# Altium integrated library Cypress Memory Static RAM.IntLib: 171 symbols (part 1 of 7)
Pins are listed as number, name and electrical type; pins without a type are passive.

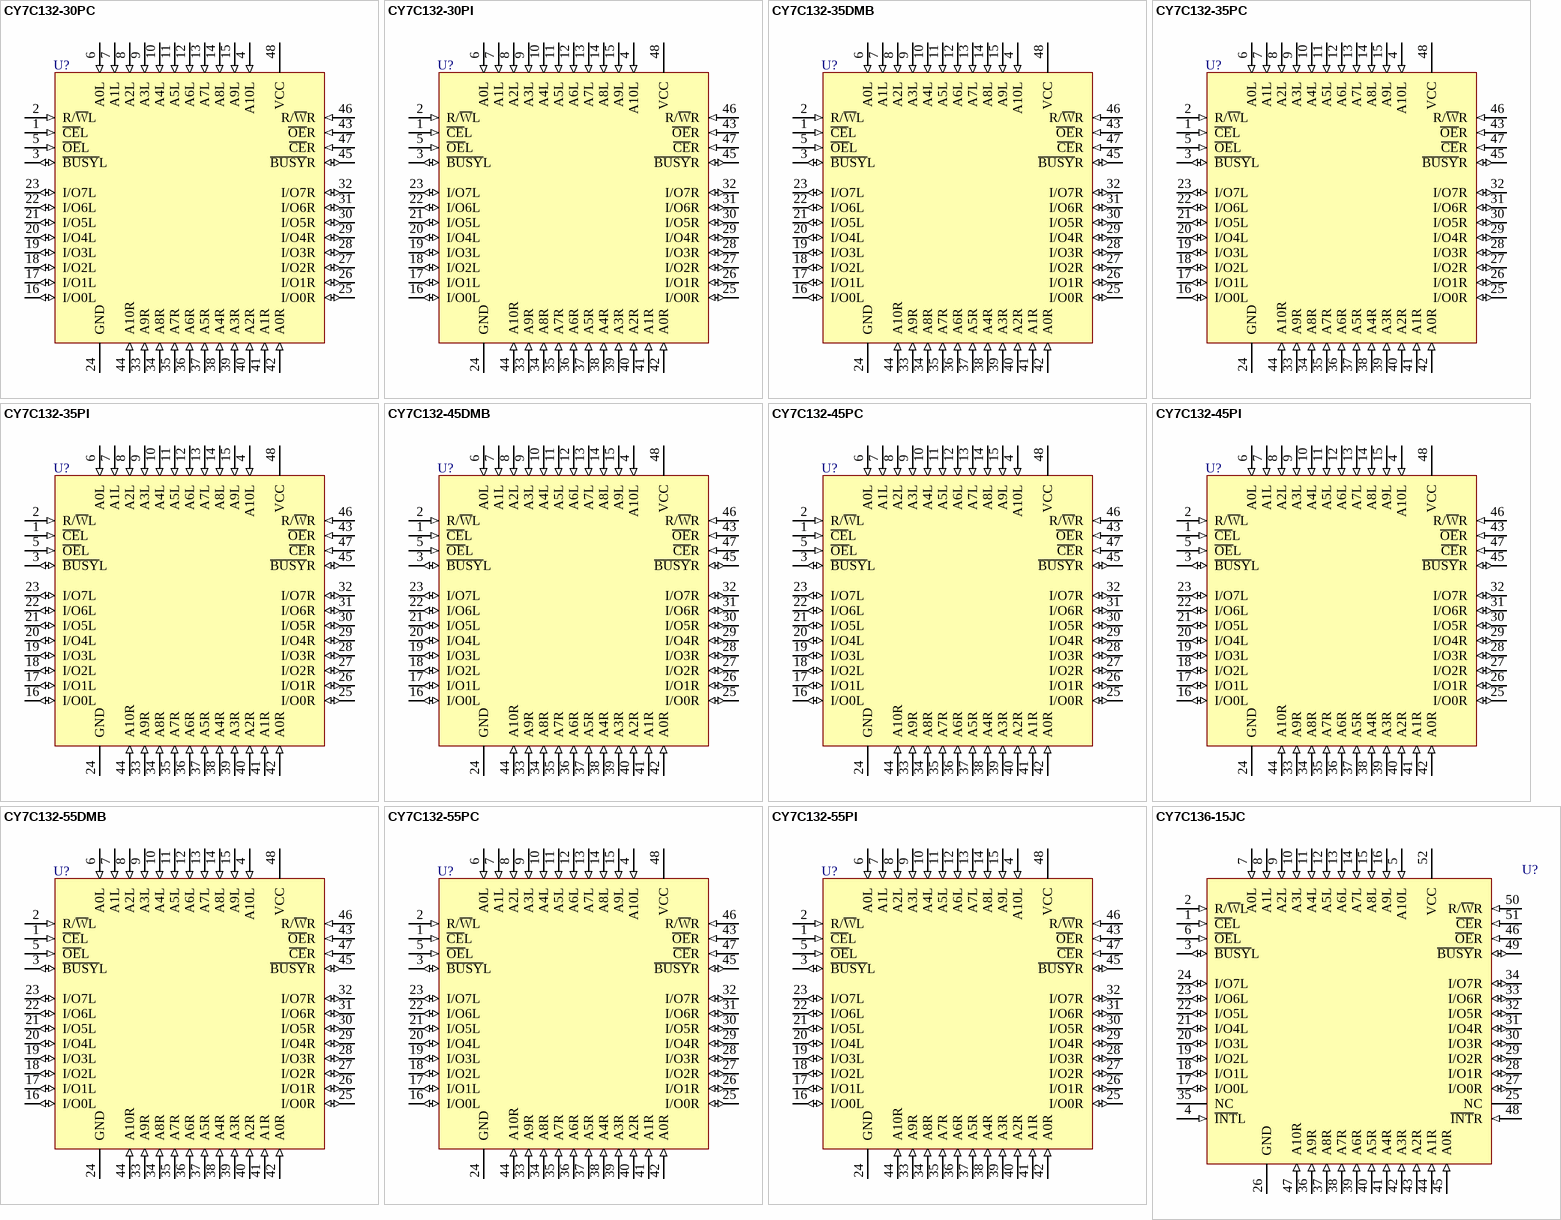
[diagram p0: symbols CY7C132-30PC to CY7C136-15JC]

## CY7C132-30PC
designator U?
2K x 8 Dual-Port Static RAM; Published: 11-Dec-2002; LatestRevisionDate: 04-Mar-2005; LatestRevisionNote: Stylized 3D Model Added.; DatasheetVersion: 27-Mar-1997; PackageVersion: Mar-1997; PackageReference: P25; Publisher: Altium Limited; PackageDescription: DIP, Molded; 48 Leads; Row Spacing 15.24 mm; Pitch 2.54 mm; ComponentLink1Description: Manufacturer Link; ComponentLink1URL: http://www.cypress.com/
footprint P25 (DIP, Molded; 48 Leads; Row Spacing 15.24 mm; Pitch 2.54 mm)
3D model P25 (DIP, Molded; 48 Leads; Row Spacing 15.24 mm; Pitch 2.54 mm)
pins: 1 ~{CE}L (in), 2 R/~{W}L (in), 3 ~{BUSY}L (io), 4 A10L (in), 5 ~{OE}L (in), 6 A0L (in), 7 A1L (in), 8 A2L (in), 9 A3L (in), 10 A4L (in), 11 A5L (in), 12 A6L (in), 13 A7L (in), 14 A8L (in), 15 A9L (in), 16 I/O0L (io), 17 I/O1L (io), 18 I/O2L (io), 19 I/O3L (io), 20 I/O4L (io), 21 I/O5L (io), 22 I/O6L (io), 23 I/O7L (io), 24 GND (power), 25 I/O0R (io), 26 I/O1R (io), 27 I/O2R (io), 28 I/O3R (io), 29 I/O4R (io), 30 I/O5R (io), 31 I/O6R (io), 32 I/O7R (io), 33 A9R (in), 34 A8R (in), 35 A7R (in), 36 A6R (in), 37 A5R (in), 38 A4R (in), 39 A3R (in), 40 A2R (in), 41 A1R (in), 42 A0R (in), 43 ~{OE}R (in), 44 A10R (in), 45 ~{BUSY}R (io), 46 R/~{W}R (in), 47 ~{CE}R (in), 48 VCC (power)

## CY7C132-30PI
designator U?
2K x 8 Dual-Port Static RAM; Published: 11-Dec-2002; LatestRevisionDate: 04-Mar-2005; LatestRevisionNote: Stylized 3D Model Added.; DatasheetVersion: 27-Mar-1997; PackageVersion: Mar-1997; PackageReference: P25; Publisher: Altium Limited; PackageDescription: DIP, Molded; 48 Leads; Row Spacing 15.24 mm; Pitch 2.54 mm; ComponentLink1Description: Manufacturer Link; ComponentLink1URL: http://www.cypress.com/
footprint P25 (DIP, Molded; 48 Leads; Row Spacing 15.24 mm; Pitch 2.54 mm)
3D model P25 (DIP, Molded; 48 Leads; Row Spacing 15.24 mm; Pitch 2.54 mm)
pins: 1 ~{CE}L (in), 2 R/~{W}L (in), 3 ~{BUSY}L (io), 4 A10L (in), 5 ~{OE}L (in), 6 A0L (in), 7 A1L (in), 8 A2L (in), 9 A3L (in), 10 A4L (in), 11 A5L (in), 12 A6L (in), 13 A7L (in), 14 A8L (in), 15 A9L (in), 16 I/O0L (io), 17 I/O1L (io), 18 I/O2L (io), 19 I/O3L (io), 20 I/O4L (io), 21 I/O5L (io), 22 I/O6L (io), 23 I/O7L (io), 24 GND (power), 25 I/O0R (io), 26 I/O1R (io), 27 I/O2R (io), 28 I/O3R (io), 29 I/O4R (io), 30 I/O5R (io), 31 I/O6R (io), 32 I/O7R (io), 33 A9R (in), 34 A8R (in), 35 A7R (in), 36 A6R (in), 37 A5R (in), 38 A4R (in), 39 A3R (in), 40 A2R (in), 41 A1R (in), 42 A0R (in), 43 ~{OE}R (in), 44 A10R (in), 45 ~{BUSY}R (io), 46 R/~{W}R (in), 47 ~{CE}R (in), 48 VCC (power)

## CY7C132-35DMB
designator U?
2K x 8 Dual-Port Static RAM; Published: 11-Dec-2002; LatestRevisionDate: 04-Mar-2005; LatestRevisionNote: Stylized 3D Model Added.; DatasheetVersion: 27-Mar-1997; PackageVersion: Mar-1997; PackageReference: D26; Publisher: Altium Limited; PackageDescription: DIP, Sidebraze; 48 Leads; Row Spacing 15.24 mm; Pitch 2.54 mm; ComponentLink1Description: Manufacturer Link; ComponentLink1URL: http://www.cypress.com/
footprint D26 (DIP, Sidebraze; 48 Leads; Row Spacing 15.24 mm; Pitch 2.54 mm)
3D model P25 (DIP, Sidebraze; 48 Leads; Row Spacing 15.24 mm; Pitch 2.54 mm)
pins: 1 ~{CE}L (in), 2 R/~{W}L (in), 3 ~{BUSY}L (io), 4 A10L (in), 5 ~{OE}L (in), 6 A0L (in), 7 A1L (in), 8 A2L (in), 9 A3L (in), 10 A4L (in), 11 A5L (in), 12 A6L (in), 13 A7L (in), 14 A8L (in), 15 A9L (in), 16 I/O0L (io), 17 I/O1L (io), 18 I/O2L (io), 19 I/O3L (io), 20 I/O4L (io), 21 I/O5L (io), 22 I/O6L (io), 23 I/O7L (io), 24 GND (power), 25 I/O0R (io), 26 I/O1R (io), 27 I/O2R (io), 28 I/O3R (io), 29 I/O4R (io), 30 I/O5R (io), 31 I/O6R (io), 32 I/O7R (io), 33 A9R (in), 34 A8R (in), 35 A7R (in), 36 A6R (in), 37 A5R (in), 38 A4R (in), 39 A3R (in), 40 A2R (in), 41 A1R (in), 42 A0R (in), 43 ~{OE}R (in), 44 A10R (in), 45 ~{BUSY}R (io), 46 R/~{W}R (in), 47 ~{CE}R (in), 48 VCC (power)

## CY7C132-35PC
designator U?
2K x 8 Dual-Port Static RAM; Published: 11-Dec-2002; LatestRevisionDate: 04-Mar-2005; LatestRevisionNote: Stylized 3D Model Added.; DatasheetVersion: 27-Mar-1997; PackageVersion: Mar-1997; PackageReference: P25; Publisher: Altium Limited; PackageDescription: DIP, Molded; 48 Leads; Row Spacing 15.24 mm; Pitch 2.54 mm; ComponentLink1Description: Manufacturer Link; ComponentLink1URL: http://www.cypress.com/
footprint P25 (DIP, Molded; 48 Leads; Row Spacing 15.24 mm; Pitch 2.54 mm)
3D model P25 (DIP, Molded; 48 Leads; Row Spacing 15.24 mm; Pitch 2.54 mm)
pins: 1 ~{CE}L (in), 2 R/~{W}L (in), 3 ~{BUSY}L (io), 4 A10L (in), 5 ~{OE}L (in), 6 A0L (in), 7 A1L (in), 8 A2L (in), 9 A3L (in), 10 A4L (in), 11 A5L (in), 12 A6L (in), 13 A7L (in), 14 A8L (in), 15 A9L (in), 16 I/O0L (io), 17 I/O1L (io), 18 I/O2L (io), 19 I/O3L (io), 20 I/O4L (io), 21 I/O5L (io), 22 I/O6L (io), 23 I/O7L (io), 24 GND (power), 25 I/O0R (io), 26 I/O1R (io), 27 I/O2R (io), 28 I/O3R (io), 29 I/O4R (io), 30 I/O5R (io), 31 I/O6R (io), 32 I/O7R (io), 33 A9R (in), 34 A8R (in), 35 A7R (in), 36 A6R (in), 37 A5R (in), 38 A4R (in), 39 A3R (in), 40 A2R (in), 41 A1R (in), 42 A0R (in), 43 ~{OE}R (in), 44 A10R (in), 45 ~{BUSY}R (io), 46 R/~{W}R (in), 47 ~{CE}R (in), 48 VCC (power)

## CY7C132-35PI
designator U?
2K x 8 Dual-Port Static RAM; Published: 11-Dec-2002; LatestRevisionDate: 04-Mar-2005; LatestRevisionNote: Stylized 3D Model Added.; DatasheetVersion: 27-Mar-1997; PackageVersion: Mar-1997; PackageReference: P25; Publisher: Altium Limited; PackageDescription: DIP, Molded; 48 Leads; Row Spacing 15.24 mm; Pitch 2.54 mm; ComponentLink1Description: Manufacturer Link; ComponentLink1URL: http://www.cypress.com/
footprint P25 (DIP, Molded; 48 Leads; Row Spacing 15.24 mm; Pitch 2.54 mm)
3D model P25 (DIP, Molded; 48 Leads; Row Spacing 15.24 mm; Pitch 2.54 mm)
pins: 1 ~{CE}L (in), 2 R/~{W}L (in), 3 ~{BUSY}L (io), 4 A10L (in), 5 ~{OE}L (in), 6 A0L (in), 7 A1L (in), 8 A2L (in), 9 A3L (in), 10 A4L (in), 11 A5L (in), 12 A6L (in), 13 A7L (in), 14 A8L (in), 15 A9L (in), 16 I/O0L (io), 17 I/O1L (io), 18 I/O2L (io), 19 I/O3L (io), 20 I/O4L (io), 21 I/O5L (io), 22 I/O6L (io), 23 I/O7L (io), 24 GND (power), 25 I/O0R (io), 26 I/O1R (io), 27 I/O2R (io), 28 I/O3R (io), 29 I/O4R (io), 30 I/O5R (io), 31 I/O6R (io), 32 I/O7R (io), 33 A9R (in), 34 A8R (in), 35 A7R (in), 36 A6R (in), 37 A5R (in), 38 A4R (in), 39 A3R (in), 40 A2R (in), 41 A1R (in), 42 A0R (in), 43 ~{OE}R (in), 44 A10R (in), 45 ~{BUSY}R (io), 46 R/~{W}R (in), 47 ~{CE}R (in), 48 VCC (power)

## CY7C132-45DMB
designator U?
2K x 8 Dual-Port Static RAM; Published: 11-Dec-2002; LatestRevisionDate: 04-Mar-2005; LatestRevisionNote: Stylized 3D Model Added.; DatasheetVersion: 27-Mar-1997; PackageVersion: Mar-1997; PackageReference: D26; Publisher: Altium Limited; PackageDescription: DIP, Sidebraze; 48 Leads; Row Spacing 15.24 mm; Pitch 2.54 mm; ComponentLink1Description: Manufacturer Link; ComponentLink1URL: http://www.cypress.com/
footprint D26 (DIP, Sidebraze; 48 Leads; Row Spacing 15.24 mm; Pitch 2.54 mm)
3D model P25 (DIP, Sidebraze; 48 Leads; Row Spacing 15.24 mm; Pitch 2.54 mm)
pins: 1 ~{CE}L (in), 2 R/~{W}L (in), 3 ~{BUSY}L (io), 4 A10L (in), 5 ~{OE}L (in), 6 A0L (in), 7 A1L (in), 8 A2L (in), 9 A3L (in), 10 A4L (in), 11 A5L (in), 12 A6L (in), 13 A7L (in), 14 A8L (in), 15 A9L (in), 16 I/O0L (io), 17 I/O1L (io), 18 I/O2L (io), 19 I/O3L (io), 20 I/O4L (io), 21 I/O5L (io), 22 I/O6L (io), 23 I/O7L (io), 24 GND (power), 25 I/O0R (io), 26 I/O1R (io), 27 I/O2R (io), 28 I/O3R (io), 29 I/O4R (io), 30 I/O5R (io), 31 I/O6R (io), 32 I/O7R (io), 33 A9R (in), 34 A8R (in), 35 A7R (in), 36 A6R (in), 37 A5R (in), 38 A4R (in), 39 A3R (in), 40 A2R (in), 41 A1R (in), 42 A0R (in), 43 ~{OE}R (in), 44 A10R (in), 45 ~{BUSY}R (io), 46 R/~{W}R (in), 47 ~{CE}R (in), 48 VCC (power)

## CY7C132-45PC
designator U?
2K x 8 Dual-Port Static RAM; Published: 11-Dec-2002; LatestRevisionDate: 04-Mar-2005; LatestRevisionNote: Stylized 3D Model Added.; DatasheetVersion: 27-Mar-1997; PackageVersion: Mar-1997; PackageReference: P25; Publisher: Altium Limited; PackageDescription: DIP, Molded; 48 Leads; Row Spacing 15.24 mm; Pitch 2.54 mm; ComponentLink1Description: Manufacturer Link; ComponentLink1URL: http://www.cypress.com/
footprint P25 (DIP, Molded; 48 Leads; Row Spacing 15.24 mm; Pitch 2.54 mm)
3D model P25 (DIP, Molded; 48 Leads; Row Spacing 15.24 mm; Pitch 2.54 mm)
pins: 1 ~{CE}L (in), 2 R/~{W}L (in), 3 ~{BUSY}L (io), 4 A10L (in), 5 ~{OE}L (in), 6 A0L (in), 7 A1L (in), 8 A2L (in), 9 A3L (in), 10 A4L (in), 11 A5L (in), 12 A6L (in), 13 A7L (in), 14 A8L (in), 15 A9L (in), 16 I/O0L (io), 17 I/O1L (io), 18 I/O2L (io), 19 I/O3L (io), 20 I/O4L (io), 21 I/O5L (io), 22 I/O6L (io), 23 I/O7L (io), 24 GND (power), 25 I/O0R (io), 26 I/O1R (io), 27 I/O2R (io), 28 I/O3R (io), 29 I/O4R (io), 30 I/O5R (io), 31 I/O6R (io), 32 I/O7R (io), 33 A9R (in), 34 A8R (in), 35 A7R (in), 36 A6R (in), 37 A5R (in), 38 A4R (in), 39 A3R (in), 40 A2R (in), 41 A1R (in), 42 A0R (in), 43 ~{OE}R (in), 44 A10R (in), 45 ~{BUSY}R (io), 46 R/~{W}R (in), 47 ~{CE}R (in), 48 VCC (power)

## CY7C132-45PI
designator U?
2K x 8 Dual-Port Static RAM; Published: 11-Dec-2002; LatestRevisionDate: 04-Mar-2005; LatestRevisionNote: Stylized 3D Model Added.; DatasheetVersion: 27-Mar-1997; PackageVersion: Mar-1997; PackageReference: P25; Publisher: Altium Limited; PackageDescription: DIP, Molded; 48 Leads; Row Spacing 15.24 mm; Pitch 2.54 mm; ComponentLink1Description: Manufacturer Link; ComponentLink1URL: http://www.cypress.com/
footprint P25 (DIP, Molded; 48 Leads; Row Spacing 15.24 mm; Pitch 2.54 mm)
3D model P25 (DIP, Molded; 48 Leads; Row Spacing 15.24 mm; Pitch 2.54 mm)
pins: 1 ~{CE}L (in), 2 R/~{W}L (in), 3 ~{BUSY}L (io), 4 A10L (in), 5 ~{OE}L (in), 6 A0L (in), 7 A1L (in), 8 A2L (in), 9 A3L (in), 10 A4L (in), 11 A5L (in), 12 A6L (in), 13 A7L (in), 14 A8L (in), 15 A9L (in), 16 I/O0L (io), 17 I/O1L (io), 18 I/O2L (io), 19 I/O3L (io), 20 I/O4L (io), 21 I/O5L (io), 22 I/O6L (io), 23 I/O7L (io), 24 GND (power), 25 I/O0R (io), 26 I/O1R (io), 27 I/O2R (io), 28 I/O3R (io), 29 I/O4R (io), 30 I/O5R (io), 31 I/O6R (io), 32 I/O7R (io), 33 A9R (in), 34 A8R (in), 35 A7R (in), 36 A6R (in), 37 A5R (in), 38 A4R (in), 39 A3R (in), 40 A2R (in), 41 A1R (in), 42 A0R (in), 43 ~{OE}R (in), 44 A10R (in), 45 ~{BUSY}R (io), 46 R/~{W}R (in), 47 ~{CE}R (in), 48 VCC (power)

## CY7C132-55DMB
designator U?
2K x 8 Dual-Port Static RAM; Published: 11-Dec-2002; LatestRevisionDate: 04-Mar-2005; LatestRevisionNote: Stylized 3D Model Added.; DatasheetVersion: 27-Mar-1997; PackageVersion: Mar-1997; PackageReference: D26; Publisher: Altium Limited; PackageDescription: DIP, Sidebraze; 48 Leads; Row Spacing 15.24 mm; Pitch 2.54 mm; ComponentLink1Description: Manufacturer Link; ComponentLink1URL: http://www.cypress.com/
footprint D26 (DIP, Sidebraze; 48 Leads; Row Spacing 15.24 mm; Pitch 2.54 mm)
3D model P25 (DIP, Sidebraze; 48 Leads; Row Spacing 15.24 mm; Pitch 2.54 mm)
pins: 1 ~{CE}L (in), 2 R/~{W}L (in), 3 ~{BUSY}L (io), 4 A10L (in), 5 ~{OE}L (in), 6 A0L (in), 7 A1L (in), 8 A2L (in), 9 A3L (in), 10 A4L (in), 11 A5L (in), 12 A6L (in), 13 A7L (in), 14 A8L (in), 15 A9L (in), 16 I/O0L (io), 17 I/O1L (io), 18 I/O2L (io), 19 I/O3L (io), 20 I/O4L (io), 21 I/O5L (io), 22 I/O6L (io), 23 I/O7L (io), 24 GND (power), 25 I/O0R (io), 26 I/O1R (io), 27 I/O2R (io), 28 I/O3R (io), 29 I/O4R (io), 30 I/O5R (io), 31 I/O6R (io), 32 I/O7R (io), 33 A9R (in), 34 A8R (in), 35 A7R (in), 36 A6R (in), 37 A5R (in), 38 A4R (in), 39 A3R (in), 40 A2R (in), 41 A1R (in), 42 A0R (in), 43 ~{OE}R (in), 44 A10R (in), 45 ~{BUSY}R (io), 46 R/~{W}R (in), 47 ~{CE}R (in), 48 VCC (power)

## CY7C132-55PC
designator U?
2K x 8 Dual-Port Static RAM; Published: 11-Dec-2002; LatestRevisionDate: 04-Mar-2005; LatestRevisionNote: Stylized 3D Model Added.; DatasheetVersion: 27-Mar-1997; PackageVersion: Mar-1997; PackageReference: P25; Publisher: Altium Limited; PackageDescription: DIP, Molded; 48 Leads; Row Spacing 15.24 mm; Pitch 2.54 mm; ComponentLink1Description: Manufacturer Link; ComponentLink1URL: http://www.cypress.com/
footprint P25 (DIP, Molded; 48 Leads; Row Spacing 15.24 mm; Pitch 2.54 mm)
3D model P25 (DIP, Molded; 48 Leads; Row Spacing 15.24 mm; Pitch 2.54 mm)
pins: 1 ~{CE}L (in), 2 R/~{W}L (in), 3 ~{BUSY}L (io), 4 A10L (in), 5 ~{OE}L (in), 6 A0L (in), 7 A1L (in), 8 A2L (in), 9 A3L (in), 10 A4L (in), 11 A5L (in), 12 A6L (in), 13 A7L (in), 14 A8L (in), 15 A9L (in), 16 I/O0L (io), 17 I/O1L (io), 18 I/O2L (io), 19 I/O3L (io), 20 I/O4L (io), 21 I/O5L (io), 22 I/O6L (io), 23 I/O7L (io), 24 GND (power), 25 I/O0R (io), 26 I/O1R (io), 27 I/O2R (io), 28 I/O3R (io), 29 I/O4R (io), 30 I/O5R (io), 31 I/O6R (io), 32 I/O7R (io), 33 A9R (in), 34 A8R (in), 35 A7R (in), 36 A6R (in), 37 A5R (in), 38 A4R (in), 39 A3R (in), 40 A2R (in), 41 A1R (in), 42 A0R (in), 43 ~{OE}R (in), 44 A10R (in), 45 ~{BUSY}R (io), 46 R/~{W}R (in), 47 ~{CE}R (in), 48 VCC (power)

## CY7C132-55PI
designator U?
2K x 8 Dual-Port Static RAM; Published: 11-Dec-2002; LatestRevisionDate: 04-Mar-2005; LatestRevisionNote: Stylized 3D Model Added.; DatasheetVersion: 27-Mar-1997; PackageVersion: Mar-1997; PackageReference: P25; Publisher: Altium Limited; PackageDescription: DIP, Molded; 48 Leads; Row Spacing 15.24 mm; Pitch 2.54 mm; ComponentLink1Description: Manufacturer Link; ComponentLink1URL: http://www.cypress.com/
footprint P25 (DIP, Molded; 48 Leads; Row Spacing 15.24 mm; Pitch 2.54 mm)
3D model P25 (DIP, Molded; 48 Leads; Row Spacing 15.24 mm; Pitch 2.54 mm)
pins: 1 ~{CE}L (in), 2 R/~{W}L (in), 3 ~{BUSY}L (io), 4 A10L (in), 5 ~{OE}L (in), 6 A0L (in), 7 A1L (in), 8 A2L (in), 9 A3L (in), 10 A4L (in), 11 A5L (in), 12 A6L (in), 13 A7L (in), 14 A8L (in), 15 A9L (in), 16 I/O0L (io), 17 I/O1L (io), 18 I/O2L (io), 19 I/O3L (io), 20 I/O4L (io), 21 I/O5L (io), 22 I/O6L (io), 23 I/O7L (io), 24 GND (power), 25 I/O0R (io), 26 I/O1R (io), 27 I/O2R (io), 28 I/O3R (io), 29 I/O4R (io), 30 I/O5R (io), 31 I/O6R (io), 32 I/O7R (io), 33 A9R (in), 34 A8R (in), 35 A7R (in), 36 A6R (in), 37 A5R (in), 38 A4R (in), 39 A3R (in), 40 A2R (in), 41 A1R (in), 42 A0R (in), 43 ~{OE}R (in), 44 A10R (in), 45 ~{BUSY}R (io), 46 R/~{W}R (in), 47 ~{CE}R (in), 48 VCC (power)

## CY7C136-15JC
designator U?
2K x 8 Dual-Port Static RAM; Published: 11-Dec-2002; LatestRevisionDate: 13-Apr-2006; LatestRevisionNote: IPC-7351 Footprint Added.; DatasheetVersion: 27-Mar-1997; PackageVersion: Mar-1997; PackageReference: J69; Publisher: Altium Limited; PackageDescription: 52-Pin Plastic Leaded Chip Carrier 1.27 mm Pitch; Code_IPC: PLCC-52; ComponentLink1Description: Manufacturer Link; ComponentLink1URL: http://www.cypress.com/
footprint J69_N (Leaded Chip Carrier, 52-Leads, Body 19x19mm, Pitch 1.27mm, IPC Medium Density)
footprint J69_L (Leaded Chip Carrier, 52-Leads, Body 19x19mm, Pitch 1.27mm, IPC High Density)
footprint J69_M (Leaded Chip Carrier, 52-Leads, Body 19x19mm, Pitch 1.27mm, IPC Low Density)
3D model CY7C136-J69 (52-Pin Plastic Leaded Chip Carrier 1.27 mm Pitch)
pins: 1 ~{CE}L (in), 2 R/~{W}L (in), 3 ~{BUSY}L (io), 4 ~{INT}L (in), 5 A10L (in), 6 ~{OE}L (in), 7 A0L (in), 8 A1L (in), 9 A2L (in), 10 A3L (in), 11 A4L (in), 12 A5L (in), 13 A6L (in), 14 A7L (in), 15 A8L (in), 16 A9L (in), 17 I/O0L (io), 18 I/O1L (io), 19 I/O2L (io), 20 I/O3L (io), 21 I/O4L (io), 22 I/O5L (io), 23 I/O6L (io), 24 I/O7L (io), 25 NC, 26 GND (power), 27 I/O0R (io), 28 I/O1R (io), 29 I/O2R (io), 30 I/O3R (io), 31 I/O4R (io), 32 I/O5R (io), 33 I/O6R (io), 34 I/O7R (io), 35 NC, 36 A9R (in), 37 A8R (in), 38 A7R (in), 39 A6R (in), 40 A5R (in), 41 A4R (in), 42 A3R (in), 43 A2R (in), 44 A1R (in), 45 A0R (in), 46 ~{OE}R (in), 47 A10R (in), 48 ~{INT}R (in), 49 ~{BUSY}R (io), 50 R/~{W}R (in), 51 ~{CE}R (in), 52 VCC (power)

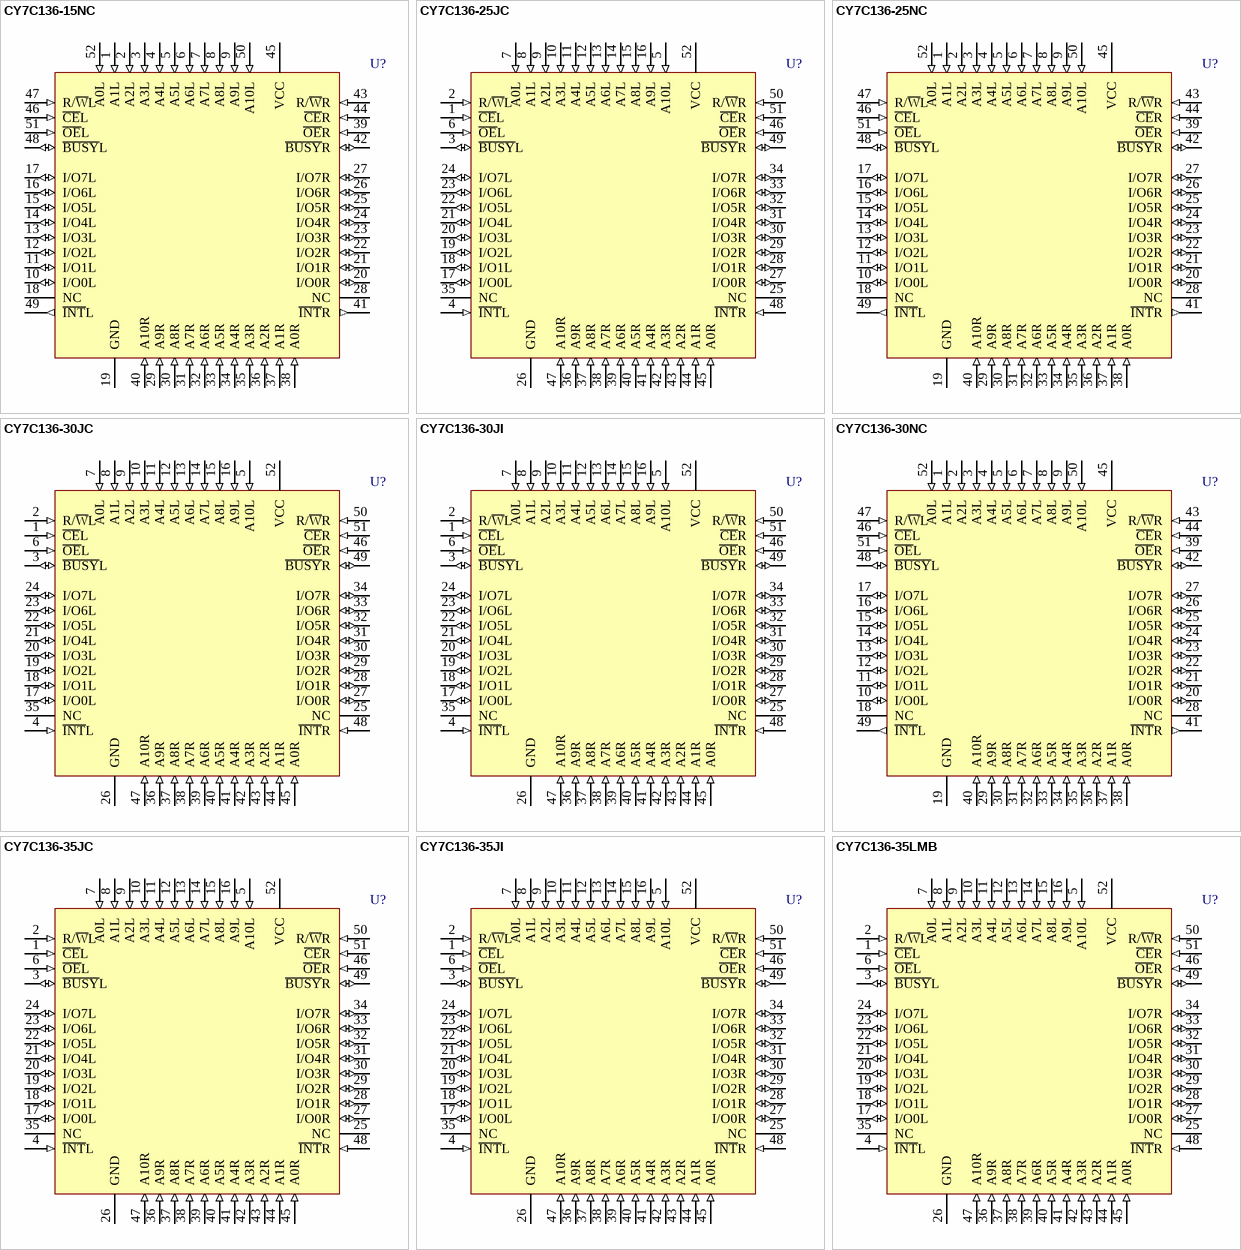
[diagram p1: symbols CY7C136-15NC to CY7C136-35LMB]

## CY7C136-15NC
designator U?
2K x 8 Dual-Port Static RAM; Published: 11-Dec-2002; LatestRevisionDate: 13-Apr-2006; LatestRevisionNote: IPC-7351 Footprint Added.; DatasheetVersion: 27-Mar-1997; PackageVersion: Mar-1997; PackageReference: N52; Publisher: Altium Limited; PackageDescription: 52-Pin Plastic Quad Flat Pack 0.65 mm Pitch; Code_IPC: QFP65P1320X1320-52; ComponentLink1Description: Manufacturer Link; ComponentLink1URL: http://www.cypress.com/
footprint N52_N (QFP, 52-Leads, Body 10 x 10mm, Pitch 0.65mm, IPC Medium Density)
footprint N52_L (QFP, 52-Leads, Body 10 x 10mm, Pitch 0.65mm, IPC High Density)
footprint N52_M (QFP, 52-Leads, Body 10 x 10mm, Pitch 0.65mm, IPC Low Density)
3D model CY7C136-N52 (52-Pin Plastic Quad Flat Pack 0.65 mm Pitch)
pins: 1 A1L (in), 2 A2L (in), 3 A3L (in), 4 A4L (in), 5 A5L (in), 6 A6L (in), 7 A7L (in), 8 A8L (in), 9 A9L (in), 10 I/O0L (io), 11 I/O1L (io), 12 I/O2L (io), 13 I/O3L (io), 14 I/O4L (io), 15 I/O5L (io), 16 I/O6L (io), 17 I/O7L (io), 18 NC, 19 GND (power), 20 I/O0R (io), 21 I/O1R (io), 22 I/O2R (io), 23 I/O3R (io), 24 I/O4R (io), 25 I/O5R (io), 26 I/O6R (io), 27 I/O7R (io), 28 NC, 29 A9R (in), 30 A8R (in), 31 A7R (in), 32 A6R (in), 33 A5R (in), 34 A4R (in), 35 A3R (in), 36 A2R (in), 37 A1R (in), 38 A0R (in), 39 ~{OE}R (in), 40 A10R (in), 41 ~{INT}R (out), 42 ~{BUSY}R (io), 43 R/~{W}R (in), 44 ~{CE}R (in), 45 VCC (power), 46 ~{CE}L (in), 47 R/~{W}L (in), 48 ~{BUSY}L (io), 49 ~{INT}L (out), 50 A10L (in), 51 ~{OE}L (in), 52 A0L (in)

## CY7C136-25JC
designator U?
2K x 8 Dual-Port Static RAM; Published: 11-Dec-2002; LatestRevisionDate: 13-Apr-2006; LatestRevisionNote: IPC-7351 Footprint Added.; DatasheetVersion: 27-Mar-1997; PackageVersion: Mar-1997; PackageReference: J69; Publisher: Altium Limited; PackageDescription: 52-Pin Plastic Leaded Chip Carrier 1.27 mm Pitch; Code_IPC: PLCC-52; ComponentLink1Description: Manufacturer Link; ComponentLink1URL: http://www.cypress.com/
footprint J69_N (Leaded Chip Carrier, 52-Leads, Body 19x19mm, Pitch 1.27mm, IPC Medium Density)
footprint J69_L (Leaded Chip Carrier, 52-Leads, Body 19x19mm, Pitch 1.27mm, IPC High Density)
footprint J69_M (Leaded Chip Carrier, 52-Leads, Body 19x19mm, Pitch 1.27mm, IPC Low Density)
3D model CY7C136-J69 (52-Pin Plastic Leaded Chip Carrier 1.27 mm Pitch)
pins: 1 ~{CE}L (in), 2 R/~{W}L (in), 3 ~{BUSY}L (io), 4 ~{INT}L (in), 5 A10L (in), 6 ~{OE}L (in), 7 A0L (in), 8 A1L (in), 9 A2L (in), 10 A3L (in), 11 A4L (in), 12 A5L (in), 13 A6L (in), 14 A7L (in), 15 A8L (in), 16 A9L (in), 17 I/O0L (io), 18 I/O1L (io), 19 I/O2L (io), 20 I/O3L (io), 21 I/O4L (io), 22 I/O5L (io), 23 I/O6L (io), 24 I/O7L (io), 25 NC, 26 GND (power), 27 I/O0R (io), 28 I/O1R (io), 29 I/O2R (io), 30 I/O3R (io), 31 I/O4R (io), 32 I/O5R (io), 33 I/O6R (io), 34 I/O7R (io), 35 NC, 36 A9R (in), 37 A8R (in), 38 A7R (in), 39 A6R (in), 40 A5R (in), 41 A4R (in), 42 A3R (in), 43 A2R (in), 44 A1R (in), 45 A0R (in), 46 ~{OE}R (in), 47 A10R (in), 48 ~{INT}R (in), 49 ~{BUSY}R (io), 50 R/~{W}R (in), 51 ~{CE}R (in), 52 VCC (power)

## CY7C136-25NC
designator U?
2K x 8 Dual-Port Static RAM; Published: 11-Dec-2002; LatestRevisionDate: 13-Apr-2006; LatestRevisionNote: IPC-7351 Footprint Added.; DatasheetVersion: 27-Mar-1997; PackageVersion: Mar-1997; PackageReference: N52; Publisher: Altium Limited; PackageDescription: 52-Pin Plastic Quad Flat Pack 0.65 mm Pitch; Code_IPC: QFP65P1320X1320-52; ComponentLink1Description: Manufacturer Link; ComponentLink1URL: http://www.cypress.com/
footprint N52_N (QFP, 52-Leads, Body 10 x 10mm, Pitch 0.65mm, IPC Medium Density)
footprint N52_L (QFP, 52-Leads, Body 10 x 10mm, Pitch 0.65mm, IPC High Density)
footprint N52_M (QFP, 52-Leads, Body 10 x 10mm, Pitch 0.65mm, IPC Low Density)
3D model CY7C136-N52 (52-Pin Plastic Quad Flat Pack 0.65 mm Pitch)
pins: 1 A1L (in), 2 A2L (in), 3 A3L (in), 4 A4L (in), 5 A5L (in), 6 A6L (in), 7 A7L (in), 8 A8L (in), 9 A9L (in), 10 I/O0L (io), 11 I/O1L (io), 12 I/O2L (io), 13 I/O3L (io), 14 I/O4L (io), 15 I/O5L (io), 16 I/O6L (io), 17 I/O7L (io), 18 NC, 19 GND (power), 20 I/O0R (io), 21 I/O1R (io), 22 I/O2R (io), 23 I/O3R (io), 24 I/O4R (io), 25 I/O5R (io), 26 I/O6R (io), 27 I/O7R (io), 28 NC, 29 A9R (in), 30 A8R (in), 31 A7R (in), 32 A6R (in), 33 A5R (in), 34 A4R (in), 35 A3R (in), 36 A2R (in), 37 A1R (in), 38 A0R (in), 39 ~{OE}R (in), 40 A10R (in), 41 ~{INT}R (out), 42 ~{BUSY}R (io), 43 R/~{W}R (in), 44 ~{CE}R (in), 45 VCC (power), 46 ~{CE}L (in), 47 R/~{W}L (in), 48 ~{BUSY}L (io), 49 ~{INT}L (out), 50 A10L (in), 51 ~{OE}L (in), 52 A0L (in)

## CY7C136-30JC
designator U?
2K x 8 Dual-Port Static RAM; Published: 11-Dec-2002; LatestRevisionDate: 13-Apr-2006; LatestRevisionNote: IPC-7351 Footprint Added.; DatasheetVersion: 27-Mar-1997; PackageVersion: Mar-1997; PackageReference: J69; Publisher: Altium Limited; PackageDescription: 52-Pin Plastic Leaded Chip Carrier 1.27 mm Pitch; Code_IPC: PLCC-52; ComponentLink1Description: Manufacturer Link; ComponentLink1URL: http://www.cypress.com/
footprint J69_N (Leaded Chip Carrier, 52-Leads, Body 19x19mm, Pitch 1.27mm, IPC Medium Density)
footprint J69_L (Leaded Chip Carrier, 52-Leads, Body 19x19mm, Pitch 1.27mm, IPC High Density)
footprint J69_M (Leaded Chip Carrier, 52-Leads, Body 19x19mm, Pitch 1.27mm, IPC Low Density)
3D model CY7C136-J69 (52-Pin Plastic Leaded Chip Carrier 1.27 mm Pitch)
pins: 1 ~{CE}L (in), 2 R/~{W}L (in), 3 ~{BUSY}L (io), 4 ~{INT}L (in), 5 A10L (in), 6 ~{OE}L (in), 7 A0L (in), 8 A1L (in), 9 A2L (in), 10 A3L (in), 11 A4L (in), 12 A5L (in), 13 A6L (in), 14 A7L (in), 15 A8L (in), 16 A9L (in), 17 I/O0L (io), 18 I/O1L (io), 19 I/O2L (io), 20 I/O3L (io), 21 I/O4L (io), 22 I/O5L (io), 23 I/O6L (io), 24 I/O7L (io), 25 NC, 26 GND (power), 27 I/O0R (io), 28 I/O1R (io), 29 I/O2R (io), 30 I/O3R (io), 31 I/O4R (io), 32 I/O5R (io), 33 I/O6R (io), 34 I/O7R (io), 35 NC, 36 A9R (in), 37 A8R (in), 38 A7R (in), 39 A6R (in), 40 A5R (in), 41 A4R (in), 42 A3R (in), 43 A2R (in), 44 A1R (in), 45 A0R (in), 46 ~{OE}R (in), 47 A10R (in), 48 ~{INT}R (in), 49 ~{BUSY}R (io), 50 R/~{W}R (in), 51 ~{CE}R (in), 52 VCC (power)

## CY7C136-30JI
designator U?
2K x 8 Dual-Port Static RAM; Published: 11-Dec-2002; LatestRevisionDate: 13-Apr-2006; LatestRevisionNote: IPC-7351 Footprint Added.; DatasheetVersion: 27-Mar-1997; PackageVersion: Mar-1997; PackageReference: J69; Publisher: Altium Limited; PackageDescription: 52-Pin Plastic Leaded Chip Carrier 1.27 mm Pitch; Code_IPC: PLCC-52; ComponentLink1Description: Manufacturer Link; ComponentLink1URL: http://www.cypress.com/
footprint J69_N (Leaded Chip Carrier, 52-Leads, Body 19x19mm, Pitch 1.27mm, IPC Medium Density)
footprint J69_L (Leaded Chip Carrier, 52-Leads, Body 19x19mm, Pitch 1.27mm, IPC High Density)
footprint J69_M (Leaded Chip Carrier, 52-Leads, Body 19x19mm, Pitch 1.27mm, IPC Low Density)
3D model CY7C136-J69 (52-Pin Plastic Leaded Chip Carrier 1.27 mm Pitch)
pins: 1 ~{CE}L (in), 2 R/~{W}L (in), 3 ~{BUSY}L (io), 4 ~{INT}L (in), 5 A10L (in), 6 ~{OE}L (in), 7 A0L (in), 8 A1L (in), 9 A2L (in), 10 A3L (in), 11 A4L (in), 12 A5L (in), 13 A6L (in), 14 A7L (in), 15 A8L (in), 16 A9L (in), 17 I/O0L (io), 18 I/O1L (io), 19 I/O2L (io), 20 I/O3L (io), 21 I/O4L (io), 22 I/O5L (io), 23 I/O6L (io), 24 I/O7L (io), 25 NC, 26 GND (power), 27 I/O0R (io), 28 I/O1R (io), 29 I/O2R (io), 30 I/O3R (io), 31 I/O4R (io), 32 I/O5R (io), 33 I/O6R (io), 34 I/O7R (io), 35 NC, 36 A9R (in), 37 A8R (in), 38 A7R (in), 39 A6R (in), 40 A5R (in), 41 A4R (in), 42 A3R (in), 43 A2R (in), 44 A1R (in), 45 A0R (in), 46 ~{OE}R (in), 47 A10R (in), 48 ~{INT}R (in), 49 ~{BUSY}R (io), 50 R/~{W}R (in), 51 ~{CE}R (in), 52 VCC (power)

## CY7C136-30NC
designator U?
2K x 8 Dual-Port Static RAM; Published: 11-Dec-2002; LatestRevisionDate: 13-Apr-2006; LatestRevisionNote: IPC-7351 Footprint Added.; DatasheetVersion: 27-Mar-1997; PackageVersion: Mar-1997; PackageReference: N52; Publisher: Altium Limited; PackageDescription: 52-Pin Plastic Quad Flat Pack 0.65 mm Pitch; Code_IPC: QFP65P1320X1320-52; ComponentLink1Description: Manufacturer Link; ComponentLink1URL: http://www.cypress.com/
footprint N52_N (QFP, 52-Leads, Body 10 x 10mm, Pitch 0.65mm, IPC Medium Density)
footprint N52_L (QFP, 52-Leads, Body 10 x 10mm, Pitch 0.65mm, IPC High Density)
footprint N52_M (QFP, 52-Leads, Body 10 x 10mm, Pitch 0.65mm, IPC Low Density)
3D model CY7C136-N52 (52-Pin Plastic Quad Flat Pack 0.65 mm Pitch)
pins: 1 A1L (in), 2 A2L (in), 3 A3L (in), 4 A4L (in), 5 A5L (in), 6 A6L (in), 7 A7L (in), 8 A8L (in), 9 A9L (in), 10 I/O0L (io), 11 I/O1L (io), 12 I/O2L (io), 13 I/O3L (io), 14 I/O4L (io), 15 I/O5L (io), 16 I/O6L (io), 17 I/O7L (io), 18 NC, 19 GND (power), 20 I/O0R (io), 21 I/O1R (io), 22 I/O2R (io), 23 I/O3R (io), 24 I/O4R (io), 25 I/O5R (io), 26 I/O6R (io), 27 I/O7R (io), 28 NC, 29 A9R (in), 30 A8R (in), 31 A7R (in), 32 A6R (in), 33 A5R (in), 34 A4R (in), 35 A3R (in), 36 A2R (in), 37 A1R (in), 38 A0R (in), 39 ~{OE}R (in), 40 A10R (in), 41 ~{INT}R (out), 42 ~{BUSY}R (io), 43 R/~{W}R (in), 44 ~{CE}R (in), 45 VCC (power), 46 ~{CE}L (in), 47 R/~{W}L (in), 48 ~{BUSY}L (io), 49 ~{INT}L (out), 50 A10L (in), 51 ~{OE}L (in), 52 A0L (in)

## CY7C136-35JC
designator U?
2K x 8 Dual-Port Static RAM; Published: 11-Dec-2002; LatestRevisionDate: 13-Apr-2006; LatestRevisionNote: IPC-7351 Footprint Added.; DatasheetVersion: 27-Mar-1997; PackageVersion: Mar-1997; PackageReference: J69; Publisher: Altium Limited; PackageDescription: 52-Pin Plastic Leaded Chip Carrier 1.27 mm Pitch; Code_IPC: PLCC-52; ComponentLink1Description: Manufacturer Link; ComponentLink1URL: http://www.cypress.com/
footprint J69_N (Leaded Chip Carrier, 52-Leads, Body 19x19mm, Pitch 1.27mm, IPC Medium Density)
footprint J69_L (Leaded Chip Carrier, 52-Leads, Body 19x19mm, Pitch 1.27mm, IPC High Density)
footprint J69_M (Leaded Chip Carrier, 52-Leads, Body 19x19mm, Pitch 1.27mm, IPC Low Density)
3D model CY7C136-J69 (52-Pin Plastic Leaded Chip Carrier 1.27 mm Pitch)
pins: 1 ~{CE}L (in), 2 R/~{W}L (in), 3 ~{BUSY}L (io), 4 ~{INT}L (in), 5 A10L (in), 6 ~{OE}L (in), 7 A0L (in), 8 A1L (in), 9 A2L (in), 10 A3L (in), 11 A4L (in), 12 A5L (in), 13 A6L (in), 14 A7L (in), 15 A8L (in), 16 A9L (in), 17 I/O0L (io), 18 I/O1L (io), 19 I/O2L (io), 20 I/O3L (io), 21 I/O4L (io), 22 I/O5L (io), 23 I/O6L (io), 24 I/O7L (io), 25 NC, 26 GND (power), 27 I/O0R (io), 28 I/O1R (io), 29 I/O2R (io), 30 I/O3R (io), 31 I/O4R (io), 32 I/O5R (io), 33 I/O6R (io), 34 I/O7R (io), 35 NC, 36 A9R (in), 37 A8R (in), 38 A7R (in), 39 A6R (in), 40 A5R (in), 41 A4R (in), 42 A3R (in), 43 A2R (in), 44 A1R (in), 45 A0R (in), 46 ~{OE}R (in), 47 A10R (in), 48 ~{INT}R (in), 49 ~{BUSY}R (io), 50 R/~{W}R (in), 51 ~{CE}R (in), 52 VCC (power)

## CY7C136-35JI
designator U?
2K x 8 Dual-Port Static RAM; Published: 11-Dec-2002; LatestRevisionDate: 13-Apr-2006; LatestRevisionNote: IPC-7351 Footprint Added.; DatasheetVersion: 27-Mar-1997; PackageVersion: Mar-1997; PackageReference: J69; Publisher: Altium Limited; PackageDescription: 52-Pin Plastic Leaded Chip Carrier 1.27 mm Pitch; Code_IPC: PLCC-52; ComponentLink1Description: Manufacturer Link; ComponentLink1URL: http://www.cypress.com/
footprint J69_N (Leaded Chip Carrier, 52-Leads, Body 19x19mm, Pitch 1.27mm, IPC Medium Density)
footprint J69_L (Leaded Chip Carrier, 52-Leads, Body 19x19mm, Pitch 1.27mm, IPC High Density)
footprint J69_M (Leaded Chip Carrier, 52-Leads, Body 19x19mm, Pitch 1.27mm, IPC Low Density)
3D model CY7C136-J69 (52-Pin Plastic Leaded Chip Carrier 1.27 mm Pitch)
pins: 1 ~{CE}L (in), 2 R/~{W}L (in), 3 ~{BUSY}L (io), 4 ~{INT}L (in), 5 A10L (in), 6 ~{OE}L (in), 7 A0L (in), 8 A1L (in), 9 A2L (in), 10 A3L (in), 11 A4L (in), 12 A5L (in), 13 A6L (in), 14 A7L (in), 15 A8L (in), 16 A9L (in), 17 I/O0L (io), 18 I/O1L (io), 19 I/O2L (io), 20 I/O3L (io), 21 I/O4L (io), 22 I/O5L (io), 23 I/O6L (io), 24 I/O7L (io), 25 NC, 26 GND (power), 27 I/O0R (io), 28 I/O1R (io), 29 I/O2R (io), 30 I/O3R (io), 31 I/O4R (io), 32 I/O5R (io), 33 I/O6R (io), 34 I/O7R (io), 35 NC, 36 A9R (in), 37 A8R (in), 38 A7R (in), 39 A6R (in), 40 A5R (in), 41 A4R (in), 42 A3R (in), 43 A2R (in), 44 A1R (in), 45 A0R (in), 46 ~{OE}R (in), 47 A10R (in), 48 ~{INT}R (in), 49 ~{BUSY}R (io), 50 R/~{W}R (in), 51 ~{CE}R (in), 52 VCC (power)

## CY7C136-35LMB
designator U?
2K x 8 Dual-Port Static RAM; Published: 11-Dec-2002; DatasheetVersion: 27-Mar-1997; PackageVersion: Mar-1997; PackageReference: L69; Publisher: Altium Limited; PackageDescription: Leadless Chip Carrier; 52 Terminals; Body 19.1 x 19.1 mm; ComponentLink1Description: Manufacturer Link; ComponentLink1URL: http://www.cypress.com/
footprint L69 (Leadless Chip Carrier; 52 Terminals; Body 19.1 x 19.1 mm)
pins: 1 ~{CE}L (in), 2 R/~{W}L (in), 3 ~{BUSY}L (io), 4 ~{INT}L (in), 5 A10L (in), 6 ~{OE}L (in), 7 A0L (in), 8 A1L (in), 9 A2L (in), 10 A3L (in), 11 A4L (in), 12 A5L (in), 13 A6L (in), 14 A7L (in), 15 A8L (in), 16 A9L (in), 17 I/O0L (io), 18 I/O1L (io), 19 I/O2L (io), 20 I/O3L (io), 21 I/O4L (io), 22 I/O5L (io), 23 I/O6L (io), 24 I/O7L (io), 25 NC, 26 GND (power), 27 I/O0R (io), 28 I/O1R (io), 29 I/O2R (io), 30 I/O3R (io), 31 I/O4R (io), 32 I/O5R (io), 33 I/O6R (io), 34 I/O7R (io), 35 NC, 36 A9R (in), 37 A8R (in), 38 A7R (in), 39 A6R (in), 40 A5R (in), 41 A4R (in), 42 A3R (in), 43 A2R (in), 44 A1R (in), 45 A0R (in), 46 ~{OE}R (in), 47 A10R (in), 48 ~{INT}R (in), 49 ~{BUSY}R (io), 50 R/~{W}R (in), 51 ~{CE}R (in), 52 VCC (power)

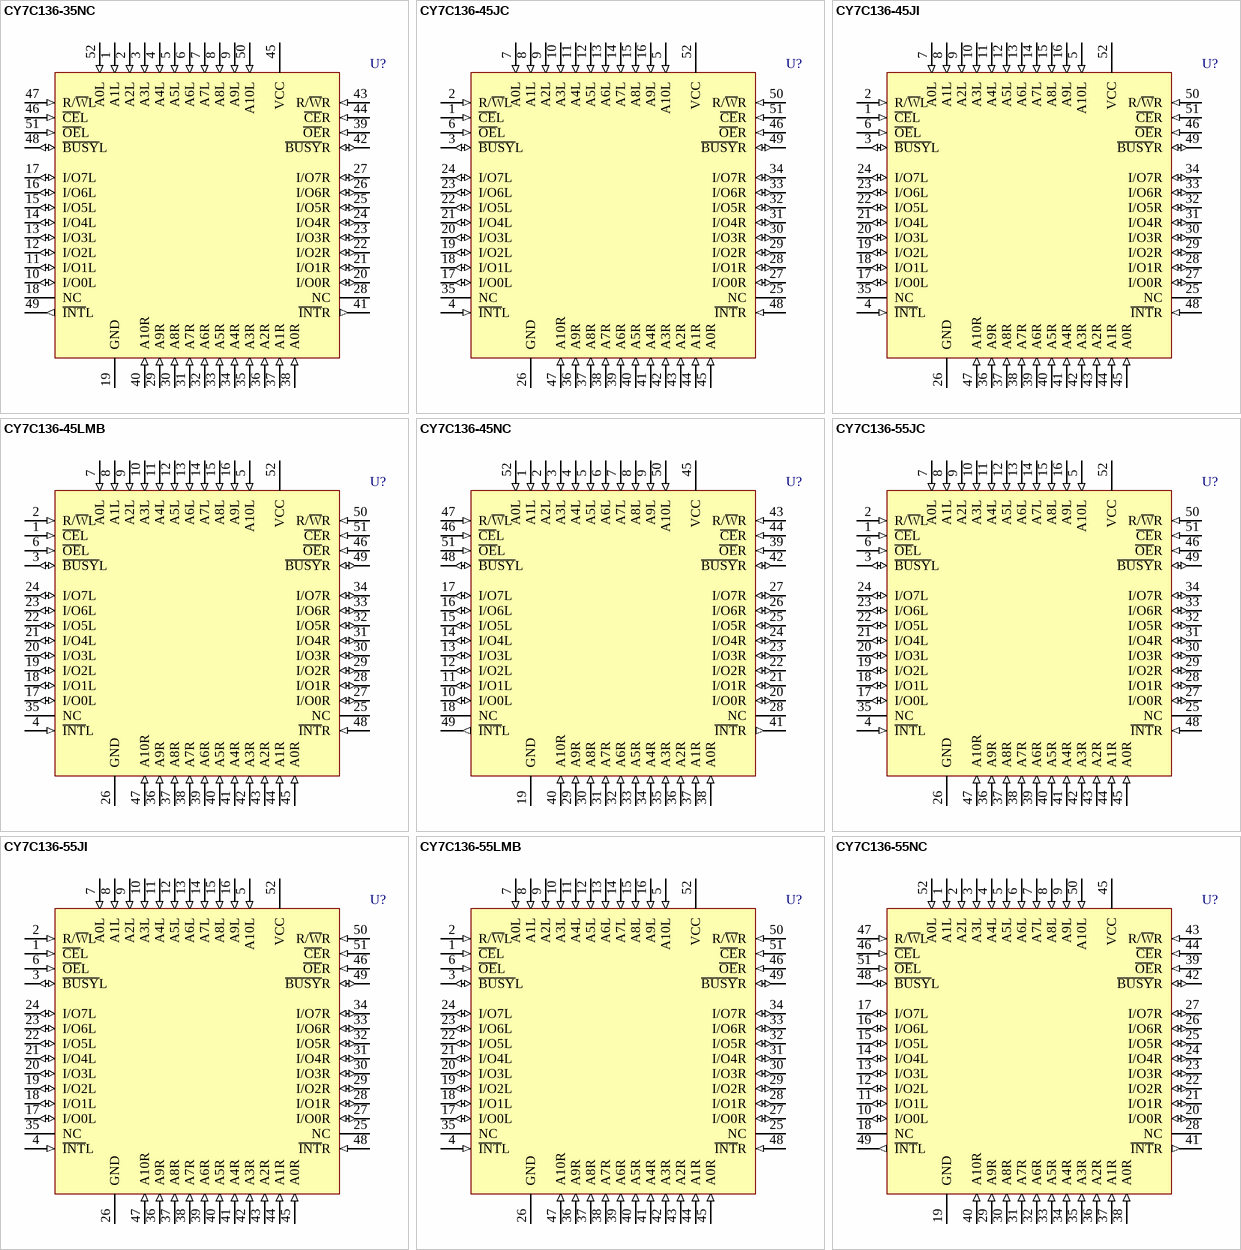
[diagram p2: symbols CY7C136-35NC to CY7C136-55NC]

## CY7C136-35NC
designator U?
2K x 8 Dual-Port Static RAM; Published: 11-Dec-2002; LatestRevisionDate: 13-Apr-2006; LatestRevisionNote: IPC-7351 Footprint Added.; DatasheetVersion: 27-Mar-1997; PackageVersion: Mar-1997; PackageReference: N52; Publisher: Altium Limited; PackageDescription: 52-Pin Plastic Quad Flat Pack 0.65 mm Pitch; Code_IPC: QFP65P1320X1320-52; ComponentLink1Description: Manufacturer Link; ComponentLink1URL: http://www.cypress.com/
footprint N52_N (QFP, 52-Leads, Body 10 x 10mm, Pitch 0.65mm, IPC Medium Density)
footprint N52_L (QFP, 52-Leads, Body 10 x 10mm, Pitch 0.65mm, IPC High Density)
footprint N52_M (QFP, 52-Leads, Body 10 x 10mm, Pitch 0.65mm, IPC Low Density)
3D model CY7C136-N52 (52-Pin Plastic Quad Flat Pack 0.65 mm Pitch)
pins: 1 A1L (in), 2 A2L (in), 3 A3L (in), 4 A4L (in), 5 A5L (in), 6 A6L (in), 7 A7L (in), 8 A8L (in), 9 A9L (in), 10 I/O0L (io), 11 I/O1L (io), 12 I/O2L (io), 13 I/O3L (io), 14 I/O4L (io), 15 I/O5L (io), 16 I/O6L (io), 17 I/O7L (io), 18 NC, 19 GND (power), 20 I/O0R (io), 21 I/O1R (io), 22 I/O2R (io), 23 I/O3R (io), 24 I/O4R (io), 25 I/O5R (io), 26 I/O6R (io), 27 I/O7R (io), 28 NC, 29 A9R (in), 30 A8R (in), 31 A7R (in), 32 A6R (in), 33 A5R (in), 34 A4R (in), 35 A3R (in), 36 A2R (in), 37 A1R (in), 38 A0R (in), 39 ~{OE}R (in), 40 A10R (in), 41 ~{INT}R (out), 42 ~{BUSY}R (io), 43 R/~{W}R (in), 44 ~{CE}R (in), 45 VCC (power), 46 ~{CE}L (in), 47 R/~{W}L (in), 48 ~{BUSY}L (io), 49 ~{INT}L (out), 50 A10L (in), 51 ~{OE}L (in), 52 A0L (in)

## CY7C136-45JC
designator U?
2K x 8 Dual-Port Static RAM; Published: 11-Dec-2002; LatestRevisionDate: 13-Apr-2006; LatestRevisionNote: IPC-7351 Footprint Added.; DatasheetVersion: 27-Mar-1997; PackageVersion: Mar-1997; PackageReference: J69; Publisher: Altium Limited; PackageDescription: 52-Pin Plastic Leaded Chip Carrier 1.27 mm Pitch; Code_IPC: PLCC-52; ComponentLink1Description: Manufacturer Link; ComponentLink1URL: http://www.cypress.com/
footprint J69_N (Leaded Chip Carrier, 52-Leads, Body 19x19mm, Pitch 1.27mm, IPC Medium Density)
footprint J69_L (Leaded Chip Carrier, 52-Leads, Body 19x19mm, Pitch 1.27mm, IPC High Density)
footprint J69_M (Leaded Chip Carrier, 52-Leads, Body 19x19mm, Pitch 1.27mm, IPC Low Density)
3D model CY7C136-J69 (52-Pin Plastic Leaded Chip Carrier 1.27 mm Pitch)
pins: 1 ~{CE}L (in), 2 R/~{W}L (in), 3 ~{BUSY}L (io), 4 ~{INT}L (in), 5 A10L (in), 6 ~{OE}L (in), 7 A0L (in), 8 A1L (in), 9 A2L (in), 10 A3L (in), 11 A4L (in), 12 A5L (in), 13 A6L (in), 14 A7L (in), 15 A8L (in), 16 A9L (in), 17 I/O0L (io), 18 I/O1L (io), 19 I/O2L (io), 20 I/O3L (io), 21 I/O4L (io), 22 I/O5L (io), 23 I/O6L (io), 24 I/O7L (io), 25 NC, 26 GND (power), 27 I/O0R (io), 28 I/O1R (io), 29 I/O2R (io), 30 I/O3R (io), 31 I/O4R (io), 32 I/O5R (io), 33 I/O6R (io), 34 I/O7R (io), 35 NC, 36 A9R (in), 37 A8R (in), 38 A7R (in), 39 A6R (in), 40 A5R (in), 41 A4R (in), 42 A3R (in), 43 A2R (in), 44 A1R (in), 45 A0R (in), 46 ~{OE}R (in), 47 A10R (in), 48 ~{INT}R (in), 49 ~{BUSY}R (io), 50 R/~{W}R (in), 51 ~{CE}R (in), 52 VCC (power)

## CY7C136-45JI
designator U?
2K x 8 Dual-Port Static RAM; Published: 11-Dec-2002; LatestRevisionDate: 13-Apr-2006; LatestRevisionNote: IPC-7351 Footprint Added.; DatasheetVersion: 27-Mar-1997; PackageVersion: Mar-1997; PackageReference: J69; Publisher: Altium Limited; PackageDescription: 52-Pin Plastic Leaded Chip Carrier 1.27 mm Pitch; Code_IPC: PLCC-52; ComponentLink1Description: Manufacturer Link; ComponentLink1URL: http://www.cypress.com/
footprint J69_N (Leaded Chip Carrier, 52-Leads, Body 19x19mm, Pitch 1.27mm, IPC Medium Density)
footprint J69_L (Leaded Chip Carrier, 52-Leads, Body 19x19mm, Pitch 1.27mm, IPC High Density)
footprint J69_M (Leaded Chip Carrier, 52-Leads, Body 19x19mm, Pitch 1.27mm, IPC Low Density)
3D model CY7C136-J69 (52-Pin Plastic Leaded Chip Carrier 1.27 mm Pitch)
pins: 1 ~{CE}L (in), 2 R/~{W}L (in), 3 ~{BUSY}L (io), 4 ~{INT}L (in), 5 A10L (in), 6 ~{OE}L (in), 7 A0L (in), 8 A1L (in), 9 A2L (in), 10 A3L (in), 11 A4L (in), 12 A5L (in), 13 A6L (in), 14 A7L (in), 15 A8L (in), 16 A9L (in), 17 I/O0L (io), 18 I/O1L (io), 19 I/O2L (io), 20 I/O3L (io), 21 I/O4L (io), 22 I/O5L (io), 23 I/O6L (io), 24 I/O7L (io), 25 NC, 26 GND (power), 27 I/O0R (io), 28 I/O1R (io), 29 I/O2R (io), 30 I/O3R (io), 31 I/O4R (io), 32 I/O5R (io), 33 I/O6R (io), 34 I/O7R (io), 35 NC, 36 A9R (in), 37 A8R (in), 38 A7R (in), 39 A6R (in), 40 A5R (in), 41 A4R (in), 42 A3R (in), 43 A2R (in), 44 A1R (in), 45 A0R (in), 46 ~{OE}R (in), 47 A10R (in), 48 ~{INT}R (in), 49 ~{BUSY}R (io), 50 R/~{W}R (in), 51 ~{CE}R (in), 52 VCC (power)

## CY7C136-45LMB
designator U?
2K x 8 Dual-Port Static RAM; Published: 11-Dec-2002; DatasheetVersion: 27-Mar-1997; PackageVersion: Mar-1997; PackageReference: L69; Publisher: Altium Limited; PackageDescription: Leadless Chip Carrier; 52 Terminals; Body 19.1 x 19.1 mm; ComponentLink1Description: Manufacturer Link; ComponentLink1URL: http://www.cypress.com/
footprint L69 (Leadless Chip Carrier; 52 Terminals; Body 19.1 x 19.1 mm)
pins: 1 ~{CE}L (in), 2 R/~{W}L (in), 3 ~{BUSY}L (io), 4 ~{INT}L (in), 5 A10L (in), 6 ~{OE}L (in), 7 A0L (in), 8 A1L (in), 9 A2L (in), 10 A3L (in), 11 A4L (in), 12 A5L (in), 13 A6L (in), 14 A7L (in), 15 A8L (in), 16 A9L (in), 17 I/O0L (io), 18 I/O1L (io), 19 I/O2L (io), 20 I/O3L (io), 21 I/O4L (io), 22 I/O5L (io), 23 I/O6L (io), 24 I/O7L (io), 25 NC, 26 GND (power), 27 I/O0R (io), 28 I/O1R (io), 29 I/O2R (io), 30 I/O3R (io), 31 I/O4R (io), 32 I/O5R (io), 33 I/O6R (io), 34 I/O7R (io), 35 NC, 36 A9R (in), 37 A8R (in), 38 A7R (in), 39 A6R (in), 40 A5R (in), 41 A4R (in), 42 A3R (in), 43 A2R (in), 44 A1R (in), 45 A0R (in), 46 ~{OE}R (in), 47 A10R (in), 48 ~{INT}R (in), 49 ~{BUSY}R (io), 50 R/~{W}R (in), 51 ~{CE}R (in), 52 VCC (power)

## CY7C136-45NC
designator U?
2K x 8 Dual-Port Static RAM; Published: 11-Dec-2002; LatestRevisionDate: 13-Apr-2006; LatestRevisionNote: IPC-7351 Footprint Added.; DatasheetVersion: 27-Mar-1997; PackageVersion: Mar-1997; PackageReference: N52; Publisher: Altium Limited; PackageDescription: 52-Pin Plastic Quad Flat Pack 0.65 mm Pitch; Code_IPC: QFP65P1320X1320-52; ComponentLink1Description: Manufacturer Link; ComponentLink1URL: http://www.cypress.com/
footprint N52_N (QFP, 52-Leads, Body 10 x 10mm, Pitch 0.65mm, IPC Medium Density)
footprint N52_L (QFP, 52-Leads, Body 10 x 10mm, Pitch 0.65mm, IPC High Density)
footprint N52_M (QFP, 52-Leads, Body 10 x 10mm, Pitch 0.65mm, IPC Low Density)
3D model CY7C136-N52 (52-Pin Plastic Quad Flat Pack 0.65 mm Pitch)
pins: 1 A1L (in), 2 A2L (in), 3 A3L (in), 4 A4L (in), 5 A5L (in), 6 A6L (in), 7 A7L (in), 8 A8L (in), 9 A9L (in), 10 I/O0L (io), 11 I/O1L (io), 12 I/O2L (io), 13 I/O3L (io), 14 I/O4L (io), 15 I/O5L (io), 16 I/O6L (io), 17 I/O7L (io), 18 NC, 19 GND (power), 20 I/O0R (io), 21 I/O1R (io), 22 I/O2R (io), 23 I/O3R (io), 24 I/O4R (io), 25 I/O5R (io), 26 I/O6R (io), 27 I/O7R (io), 28 NC, 29 A9R (in), 30 A8R (in), 31 A7R (in), 32 A6R (in), 33 A5R (in), 34 A4R (in), 35 A3R (in), 36 A2R (in), 37 A1R (in), 38 A0R (in), 39 ~{OE}R (in), 40 A10R (in), 41 ~{INT}R (out), 42 ~{BUSY}R (io), 43 R/~{W}R (in), 44 ~{CE}R (in), 45 VCC (power), 46 ~{CE}L (in), 47 R/~{W}L (in), 48 ~{BUSY}L (io), 49 ~{INT}L (out), 50 A10L (in), 51 ~{OE}L (in), 52 A0L (in)

## CY7C136-55JC
designator U?
2K x 8 Dual-Port Static RAM; Published: 11-Dec-2002; LatestRevisionDate: 13-Apr-2006; LatestRevisionNote: IPC-7351 Footprint Added.; DatasheetVersion: 27-Mar-1997; PackageVersion: Mar-1997; PackageReference: J69; Publisher: Altium Limited; PackageDescription: 52-Pin Plastic Leaded Chip Carrier 1.27 mm Pitch; Code_IPC: PLCC-52; ComponentLink1Description: Manufacturer Link; ComponentLink1URL: http://www.cypress.com/
footprint J69_N (Leaded Chip Carrier, 52-Leads, Body 19x19mm, Pitch 1.27mm, IPC Medium Density)
footprint J69_L (Leaded Chip Carrier, 52-Leads, Body 19x19mm, Pitch 1.27mm, IPC High Density)
footprint J69_M (Leaded Chip Carrier, 52-Leads, Body 19x19mm, Pitch 1.27mm, IPC Low Density)
3D model CY7C136-J69 (52-Pin Plastic Leaded Chip Carrier 1.27 mm Pitch)
pins: 1 ~{CE}L (in), 2 R/~{W}L (in), 3 ~{BUSY}L (io), 4 ~{INT}L (in), 5 A10L (in), 6 ~{OE}L (in), 7 A0L (in), 8 A1L (in), 9 A2L (in), 10 A3L (in), 11 A4L (in), 12 A5L (in), 13 A6L (in), 14 A7L (in), 15 A8L (in), 16 A9L (in), 17 I/O0L (io), 18 I/O1L (io), 19 I/O2L (io), 20 I/O3L (io), 21 I/O4L (io), 22 I/O5L (io), 23 I/O6L (io), 24 I/O7L (io), 25 NC, 26 GND (power), 27 I/O0R (io), 28 I/O1R (io), 29 I/O2R (io), 30 I/O3R (io), 31 I/O4R (io), 32 I/O5R (io), 33 I/O6R (io), 34 I/O7R (io), 35 NC, 36 A9R (in), 37 A8R (in), 38 A7R (in), 39 A6R (in), 40 A5R (in), 41 A4R (in), 42 A3R (in), 43 A2R (in), 44 A1R (in), 45 A0R (in), 46 ~{OE}R (in), 47 A10R (in), 48 ~{INT}R (in), 49 ~{BUSY}R (io), 50 R/~{W}R (in), 51 ~{CE}R (in), 52 VCC (power)

## CY7C136-55JI
designator U?
2K x 8 Dual-Port Static RAM; Published: 11-Dec-2002; LatestRevisionDate: 13-Apr-2006; LatestRevisionNote: IPC-7351 Footprint Added.; DatasheetVersion: 27-Mar-1997; PackageVersion: Mar-1997; PackageReference: J69; Publisher: Altium Limited; PackageDescription: 52-Pin Plastic Leaded Chip Carrier 1.27 mm Pitch; Code_IPC: PLCC-52; ComponentLink1Description: Manufacturer Link; ComponentLink1URL: http://www.cypress.com/
footprint J69_N (Leaded Chip Carrier, 52-Leads, Body 19x19mm, Pitch 1.27mm, IPC Medium Density)
footprint J69_L (Leaded Chip Carrier, 52-Leads, Body 19x19mm, Pitch 1.27mm, IPC High Density)
footprint J69_M (Leaded Chip Carrier, 52-Leads, Body 19x19mm, Pitch 1.27mm, IPC Low Density)
3D model CY7C136-J69 (52-Pin Plastic Leaded Chip Carrier 1.27 mm Pitch)
pins: 1 ~{CE}L (in), 2 R/~{W}L (in), 3 ~{BUSY}L (io), 4 ~{INT}L (in), 5 A10L (in), 6 ~{OE}L (in), 7 A0L (in), 8 A1L (in), 9 A2L (in), 10 A3L (in), 11 A4L (in), 12 A5L (in), 13 A6L (in), 14 A7L (in), 15 A8L (in), 16 A9L (in), 17 I/O0L (io), 18 I/O1L (io), 19 I/O2L (io), 20 I/O3L (io), 21 I/O4L (io), 22 I/O5L (io), 23 I/O6L (io), 24 I/O7L (io), 25 NC, 26 GND (power), 27 I/O0R (io), 28 I/O1R (io), 29 I/O2R (io), 30 I/O3R (io), 31 I/O4R (io), 32 I/O5R (io), 33 I/O6R (io), 34 I/O7R (io), 35 NC, 36 A9R (in), 37 A8R (in), 38 A7R (in), 39 A6R (in), 40 A5R (in), 41 A4R (in), 42 A3R (in), 43 A2R (in), 44 A1R (in), 45 A0R (in), 46 ~{OE}R (in), 47 A10R (in), 48 ~{INT}R (in), 49 ~{BUSY}R (io), 50 R/~{W}R (in), 51 ~{CE}R (in), 52 VCC (power)

## CY7C136-55LMB
designator U?
2K x 8 Dual-Port Static RAM; Published: 11-Dec-2002; DatasheetVersion: 27-Mar-1997; PackageVersion: Mar-1997; PackageReference: L69; Publisher: Altium Limited; PackageDescription: Leadless Chip Carrier; 52 Terminals; Body 19.1 x 19.1 mm; ComponentLink1Description: Manufacturer Link; ComponentLink1URL: http://www.cypress.com/
footprint L69 (Leadless Chip Carrier; 52 Terminals; Body 19.1 x 19.1 mm)
pins: 1 ~{CE}L (in), 2 R/~{W}L (in), 3 ~{BUSY}L (io), 4 ~{INT}L (in), 5 A10L (in), 6 ~{OE}L (in), 7 A0L (in), 8 A1L (in), 9 A2L (in), 10 A3L (in), 11 A4L (in), 12 A5L (in), 13 A6L (in), 14 A7L (in), 15 A8L (in), 16 A9L (in), 17 I/O0L (io), 18 I/O1L (io), 19 I/O2L (io), 20 I/O3L (io), 21 I/O4L (io), 22 I/O5L (io), 23 I/O6L (io), 24 I/O7L (io), 25 NC, 26 GND (power), 27 I/O0R (io), 28 I/O1R (io), 29 I/O2R (io), 30 I/O3R (io), 31 I/O4R (io), 32 I/O5R (io), 33 I/O6R (io), 34 I/O7R (io), 35 NC, 36 A9R (in), 37 A8R (in), 38 A7R (in), 39 A6R (in), 40 A5R (in), 41 A4R (in), 42 A3R (in), 43 A2R (in), 44 A1R (in), 45 A0R (in), 46 ~{OE}R (in), 47 A10R (in), 48 ~{INT}R (in), 49 ~{BUSY}R (io), 50 R/~{W}R (in), 51 ~{CE}R (in), 52 VCC (power)

## CY7C136-55NC
designator U?
2K x 8 Dual-Port Static RAM; Published: 11-Dec-2002; LatestRevisionDate: 13-Apr-2006; LatestRevisionNote: IPC-7351 Footprint Added.; DatasheetVersion: 27-Mar-1997; PackageVersion: Mar-1997; PackageReference: N52; Publisher: Altium Limited; PackageDescription: 52-Pin Plastic Quad Flat Pack 0.65 mm Pitch; Code_IPC: QFP65P1320X1320-52; ComponentLink1Description: Manufacturer Link; ComponentLink1URL: http://www.cypress.com/
footprint N52_N (QFP, 52-Leads, Body 10 x 10mm, Pitch 0.65mm, IPC Medium Density)
footprint N52_L (QFP, 52-Leads, Body 10 x 10mm, Pitch 0.65mm, IPC High Density)
footprint N52_M (QFP, 52-Leads, Body 10 x 10mm, Pitch 0.65mm, IPC Low Density)
3D model CY7C136-N52 (52-Pin Plastic Quad Flat Pack 0.65 mm Pitch)
pins: 1 A1L (in), 2 A2L (in), 3 A3L (in), 4 A4L (in), 5 A5L (in), 6 A6L (in), 7 A7L (in), 8 A8L (in), 9 A9L (in), 10 I/O0L (io), 11 I/O1L (io), 12 I/O2L (io), 13 I/O3L (io), 14 I/O4L (io), 15 I/O5L (io), 16 I/O6L (io), 17 I/O7L (io), 18 NC, 19 GND (power), 20 I/O0R (io), 21 I/O1R (io), 22 I/O2R (io), 23 I/O3R (io), 24 I/O4R (io), 25 I/O5R (io), 26 I/O6R (io), 27 I/O7R (io), 28 NC, 29 A9R (in), 30 A8R (in), 31 A7R (in), 32 A6R (in), 33 A5R (in), 34 A4R (in), 35 A3R (in), 36 A2R (in), 37 A1R (in), 38 A0R (in), 39 ~{OE}R (in), 40 A10R (in), 41 ~{INT}R (out), 42 ~{BUSY}R (io), 43 R/~{W}R (in), 44 ~{CE}R (in), 45 VCC (power), 46 ~{CE}L (in), 47 R/~{W}L (in), 48 ~{BUSY}L (io), 49 ~{INT}L (out), 50 A10L (in), 51 ~{OE}L (in), 52 A0L (in)

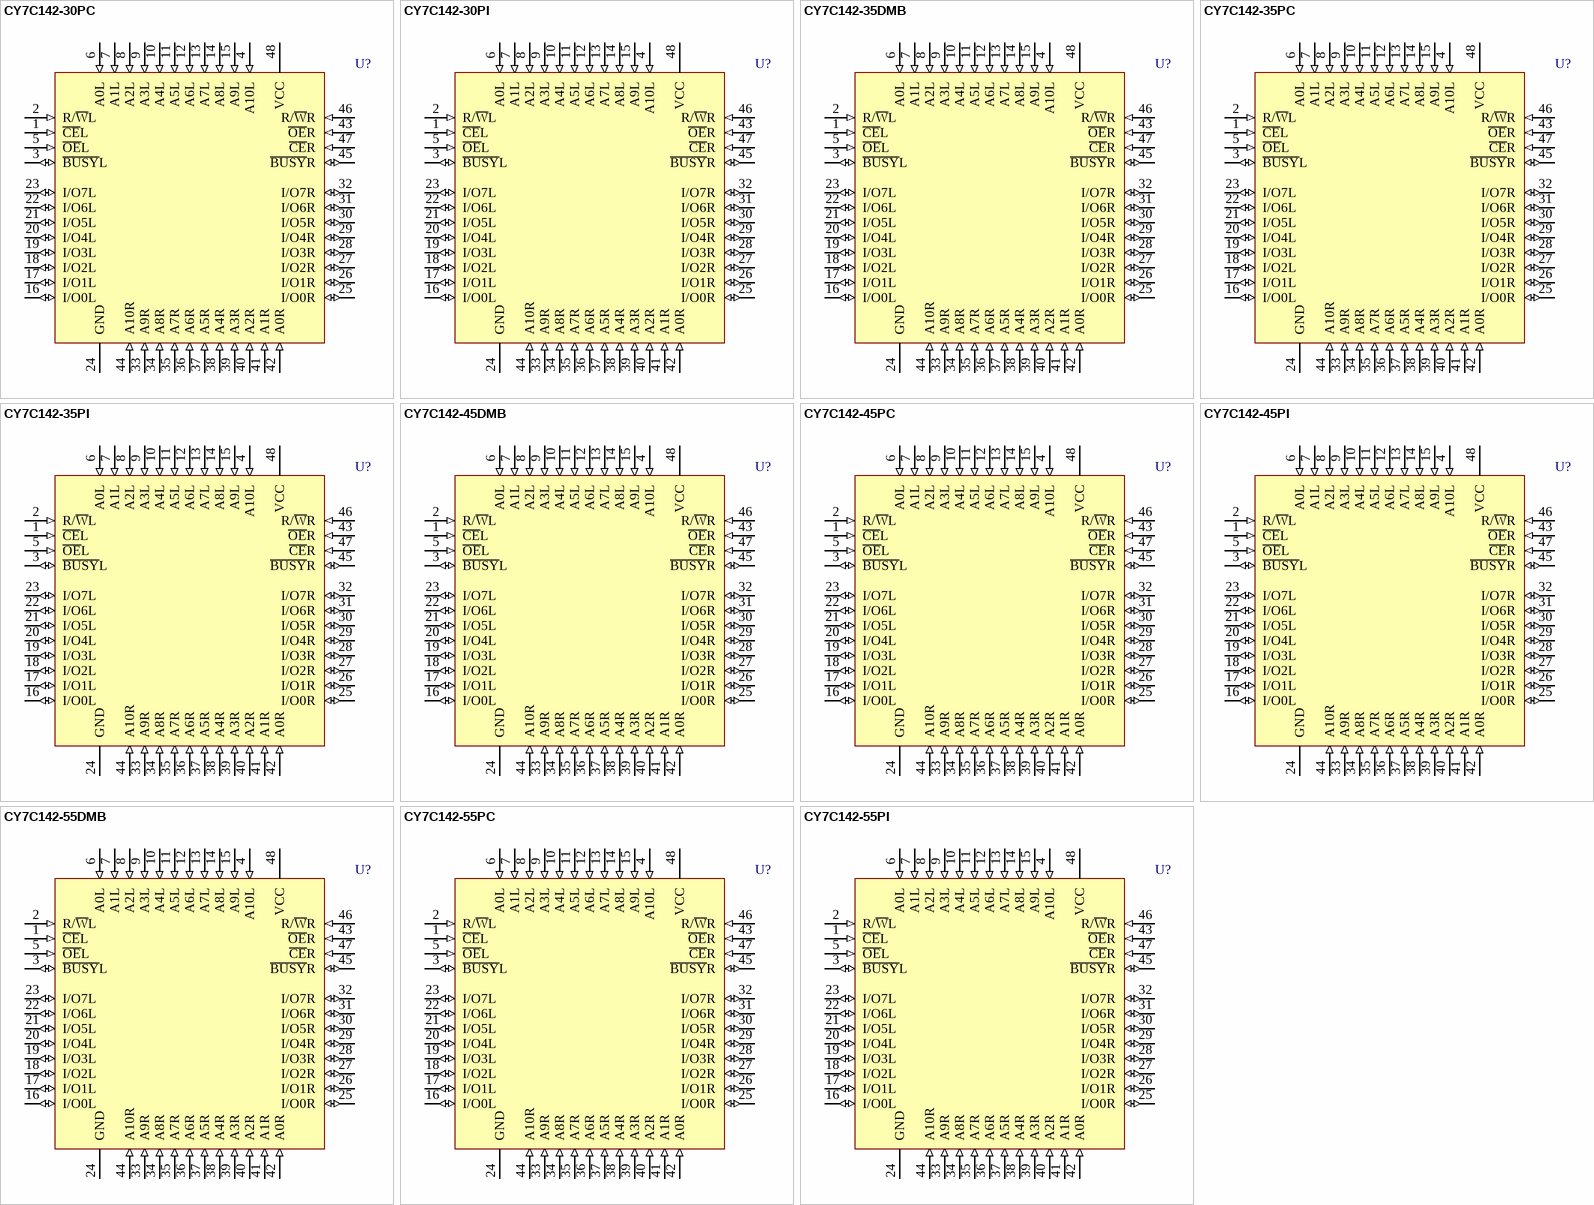
[diagram p3: symbols CY7C142-30PC to CY7C142-55PI]

## CY7C142-30PC
designator U?
2K x 8 Dual-Port Static RAM; Published: 11-Dec-2002; LatestRevisionDate: 04-Mar-2005; LatestRevisionNote: Stylized 3D Model Added.; DatasheetVersion: 27-Mar-1997; PackageVersion: Mar-1997; PackageReference: P25; Publisher: Altium Limited; PackageDescription: DIP, Molded; 48 Leads; Row Spacing 15.24 mm; Pitch 2.54 mm; ComponentLink1Description: Manufacturer Link; ComponentLink1URL: http://www.cypress.com/
footprint P25 (DIP, Molded; 48 Leads; Row Spacing 15.24 mm; Pitch 2.54 mm)
3D model P25 (DIP, Molded; 48 Leads; Row Spacing 15.24 mm; Pitch 2.54 mm)
pins: 1 ~{CE}L (in), 2 R/~{W}L (in), 3 ~{BUSY}L (io), 4 A10L (in), 5 ~{OE}L (in), 6 A0L (in), 7 A1L (in), 8 A2L (in), 9 A3L (in), 10 A4L (in), 11 A5L (in), 12 A6L (in), 13 A7L (in), 14 A8L (in), 15 A9L (in), 16 I/O0L (io), 17 I/O1L (io), 18 I/O2L (io), 19 I/O3L (io), 20 I/O4L (io), 21 I/O5L (io), 22 I/O6L (io), 23 I/O7L (io), 24 GND (power), 25 I/O0R (io), 26 I/O1R (io), 27 I/O2R (io), 28 I/O3R (io), 29 I/O4R (io), 30 I/O5R (io), 31 I/O6R (io), 32 I/O7R (io), 33 A9R (in), 34 A8R (in), 35 A7R (in), 36 A6R (in), 37 A5R (in), 38 A4R (in), 39 A3R (in), 40 A2R (in), 41 A1R (in), 42 A0R (in), 43 ~{OE}R (in), 44 A10R (in), 45 ~{BUSY}R (io), 46 R/~{W}R (in), 47 ~{CE}R (in), 48 VCC (power)

## CY7C142-30PI
designator U?
2K x 8 Dual-Port Static RAM; Published: 11-Dec-2002; LatestRevisionDate: 04-Mar-2005; LatestRevisionNote: Stylized 3D Model Added.; DatasheetVersion: 27-Mar-1997; PackageVersion: Mar-1997; PackageReference: P25; Publisher: Altium Limited; PackageDescription: DIP, Molded; 48 Leads; Row Spacing 15.24 mm; Pitch 2.54 mm; ComponentLink1Description: Manufacturer Link; ComponentLink1URL: http://www.cypress.com/
footprint P25 (DIP, Molded; 48 Leads; Row Spacing 15.24 mm; Pitch 2.54 mm)
3D model P25 (DIP, Molded; 48 Leads; Row Spacing 15.24 mm; Pitch 2.54 mm)
pins: 1 ~{CE}L (in), 2 R/~{W}L (in), 3 ~{BUSY}L (io), 4 A10L (in), 5 ~{OE}L (in), 6 A0L (in), 7 A1L (in), 8 A2L (in), 9 A3L (in), 10 A4L (in), 11 A5L (in), 12 A6L (in), 13 A7L (in), 14 A8L (in), 15 A9L (in), 16 I/O0L (io), 17 I/O1L (io), 18 I/O2L (io), 19 I/O3L (io), 20 I/O4L (io), 21 I/O5L (io), 22 I/O6L (io), 23 I/O7L (io), 24 GND (power), 25 I/O0R (io), 26 I/O1R (io), 27 I/O2R (io), 28 I/O3R (io), 29 I/O4R (io), 30 I/O5R (io), 31 I/O6R (io), 32 I/O7R (io), 33 A9R (in), 34 A8R (in), 35 A7R (in), 36 A6R (in), 37 A5R (in), 38 A4R (in), 39 A3R (in), 40 A2R (in), 41 A1R (in), 42 A0R (in), 43 ~{OE}R (in), 44 A10R (in), 45 ~{BUSY}R (io), 46 R/~{W}R (in), 47 ~{CE}R (in), 48 VCC (power)

## CY7C142-35DMB
designator U?
2K x 8 Dual-Port Static RAM; Published: 11-Dec-2002; LatestRevisionDate: 04-Mar-2005; LatestRevisionNote: Stylized 3D Model Added.; DatasheetVersion: 27-Mar-1997; PackageVersion: Mar-1997; PackageReference: D26; Publisher: Altium Limited; PackageDescription: DIP, Sidebraze; 48 Leads; Row Spacing 15.24 mm; Pitch 2.54 mm; ComponentLink1Description: Manufacturer Link; ComponentLink1URL: http://www.cypress.com/
footprint D26 (DIP, Sidebraze; 48 Leads; Row Spacing 15.24 mm; Pitch 2.54 mm)
3D model P25 (DIP, Sidebraze; 48 Leads; Row Spacing 15.24 mm; Pitch 2.54 mm)
pins: 1 ~{CE}L (in), 2 R/~{W}L (in), 3 ~{BUSY}L (io), 4 A10L (in), 5 ~{OE}L (in), 6 A0L (in), 7 A1L (in), 8 A2L (in), 9 A3L (in), 10 A4L (in), 11 A5L (in), 12 A6L (in), 13 A7L (in), 14 A8L (in), 15 A9L (in), 16 I/O0L (io), 17 I/O1L (io), 18 I/O2L (io), 19 I/O3L (io), 20 I/O4L (io), 21 I/O5L (io), 22 I/O6L (io), 23 I/O7L (io), 24 GND (power), 25 I/O0R (io), 26 I/O1R (io), 27 I/O2R (io), 28 I/O3R (io), 29 I/O4R (io), 30 I/O5R (io), 31 I/O6R (io), 32 I/O7R (io), 33 A9R (in), 34 A8R (in), 35 A7R (in), 36 A6R (in), 37 A5R (in), 38 A4R (in), 39 A3R (in), 40 A2R (in), 41 A1R (in), 42 A0R (in), 43 ~{OE}R (in), 44 A10R (in), 45 ~{BUSY}R (io), 46 R/~{W}R (in), 47 ~{CE}R (in), 48 VCC (power)

## CY7C142-35PC
designator U?
2K x 8 Dual-Port Static RAM; Published: 11-Dec-2002; LatestRevisionDate: 04-Mar-2005; LatestRevisionNote: Stylized 3D Model Added.; DatasheetVersion: 27-Mar-1997; PackageVersion: Mar-1997; PackageReference: P25; Publisher: Altium Limited; PackageDescription: DIP, Molded; 48 Leads; Row Spacing 15.24 mm; Pitch 2.54 mm; ComponentLink1Description: Manufacturer Link; ComponentLink1URL: http://www.cypress.com/
footprint P25 (DIP, Molded; 48 Leads; Row Spacing 15.24 mm; Pitch 2.54 mm)
3D model P25 (DIP, Molded; 48 Leads; Row Spacing 15.24 mm; Pitch 2.54 mm)
pins: 1 ~{CE}L (in), 2 R/~{W}L (in), 3 ~{BUSY}L (io), 4 A10L (in), 5 ~{OE}L (in), 6 A0L (in), 7 A1L (in), 8 A2L (in), 9 A3L (in), 10 A4L (in), 11 A5L (in), 12 A6L (in), 13 A7L (in), 14 A8L (in), 15 A9L (in), 16 I/O0L (io), 17 I/O1L (io), 18 I/O2L (io), 19 I/O3L (io), 20 I/O4L (io), 21 I/O5L (io), 22 I/O6L (io), 23 I/O7L (io), 24 GND (power), 25 I/O0R (io), 26 I/O1R (io), 27 I/O2R (io), 28 I/O3R (io), 29 I/O4R (io), 30 I/O5R (io), 31 I/O6R (io), 32 I/O7R (io), 33 A9R (in), 34 A8R (in), 35 A7R (in), 36 A6R (in), 37 A5R (in), 38 A4R (in), 39 A3R (in), 40 A2R (in), 41 A1R (in), 42 A0R (in), 43 ~{OE}R (in), 44 A10R (in), 45 ~{BUSY}R (io), 46 R/~{W}R (in), 47 ~{CE}R (in), 48 VCC (power)

## CY7C142-35PI
designator U?
2K x 8 Dual-Port Static RAM; Published: 11-Dec-2002; LatestRevisionDate: 04-Mar-2005; LatestRevisionNote: Stylized 3D Model Added.; DatasheetVersion: 27-Mar-1997; PackageVersion: Mar-1997; PackageReference: P25; Publisher: Altium Limited; PackageDescription: DIP, Molded; 48 Leads; Row Spacing 15.24 mm; Pitch 2.54 mm; ComponentLink1Description: Manufacturer Link; ComponentLink1URL: http://www.cypress.com/
footprint P25 (DIP, Molded; 48 Leads; Row Spacing 15.24 mm; Pitch 2.54 mm)
3D model P25 (DIP, Molded; 48 Leads; Row Spacing 15.24 mm; Pitch 2.54 mm)
pins: 1 ~{CE}L (in), 2 R/~{W}L (in), 3 ~{BUSY}L (io), 4 A10L (in), 5 ~{OE}L (in), 6 A0L (in), 7 A1L (in), 8 A2L (in), 9 A3L (in), 10 A4L (in), 11 A5L (in), 12 A6L (in), 13 A7L (in), 14 A8L (in), 15 A9L (in), 16 I/O0L (io), 17 I/O1L (io), 18 I/O2L (io), 19 I/O3L (io), 20 I/O4L (io), 21 I/O5L (io), 22 I/O6L (io), 23 I/O7L (io), 24 GND (power), 25 I/O0R (io), 26 I/O1R (io), 27 I/O2R (io), 28 I/O3R (io), 29 I/O4R (io), 30 I/O5R (io), 31 I/O6R (io), 32 I/O7R (io), 33 A9R (in), 34 A8R (in), 35 A7R (in), 36 A6R (in), 37 A5R (in), 38 A4R (in), 39 A3R (in), 40 A2R (in), 41 A1R (in), 42 A0R (in), 43 ~{OE}R (in), 44 A10R (in), 45 ~{BUSY}R (io), 46 R/~{W}R (in), 47 ~{CE}R (in), 48 VCC (power)